# Altium footprint library CBB21.PcbLib: 1 footprints
Each footprint in its own frame and in the unit in brackets; x right, y up, seen from the top. Pads: shape width x height; smd on the part's side, far side on the other; paste and mask are expansions set on the pad; w line width, h text height; cw(c..) or ccw(c..) is an arc to the next point about the centre after c.
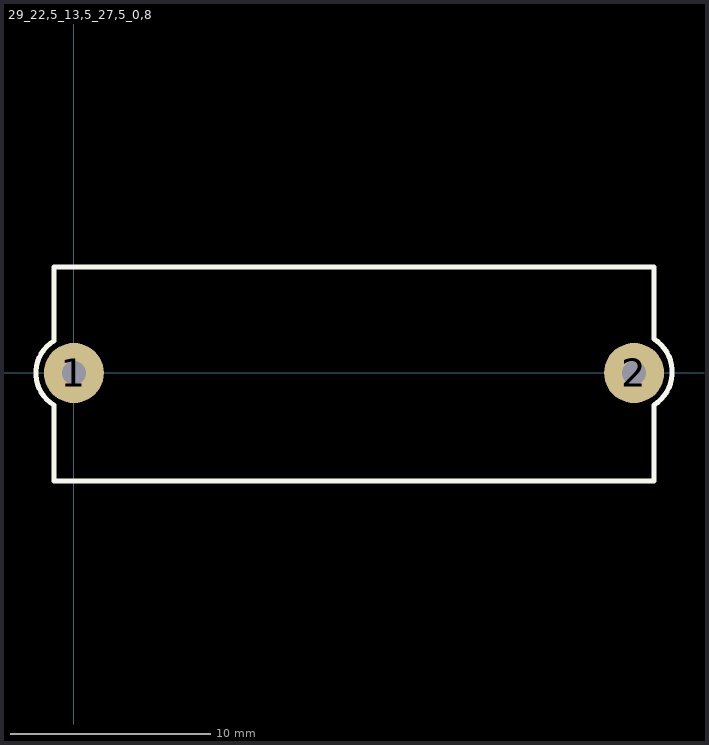
[diagram p0: the footprint, top view; thin cyan lines are the x and y axes]

## 29_22,5_13,5_27,5_0,8 [mm]
pads (2):
  round 3 hole 1.2: 1(0,0) 2(28,0)
Top Overlay:
  lines w0.254: -1,-5.4 29,-5.4 29,-1.6 ccw(c27.95,0.05) 29,1.7 29,5.3 -1,5.3 -1,1.6 ccw(c-0.028,0) -1,-1.6 -1,-5.4
3D body "CBB21_1_630.stp": height 20, standoff -4, extent -0.5,-5 28.5,5
3D body: height 0.25, standoff 0, extent 4,0 4,0